# EAGLE library part TLP290-4 (library AC_nest_parts)
4 Channel Optoisolator (AC/DC input)
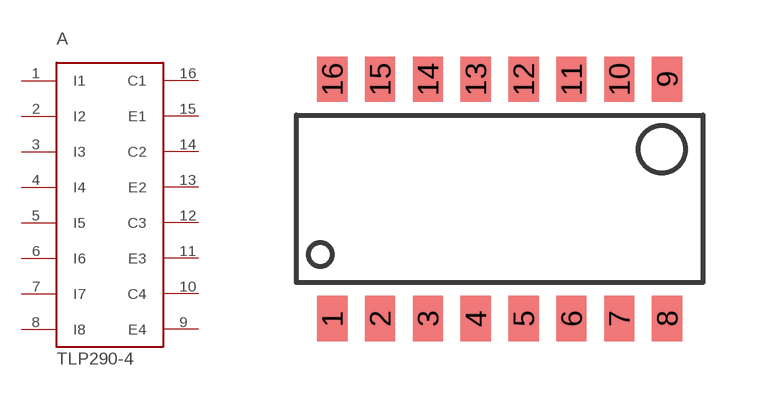
[diagram p0: symbol with the pads of TLP290-4; footprint TLP290-4]

Designator prefix A

## TLP290-4  [TLP290-4]
1  I1
2  I2
3  I3
4  I4
5  I5
6  I6
7  I7
8  I8
9  E4
10  C4
11  E3
12  C3
13  E2
14  C2
15  E1
16  C1

## Footprint TLP290-4 (pad centres in mm)
smd 0.8 x 1.2: 1 0,-7.62; 2 1.27,-7.62; 3 2.54,-7.62; 4 3.81,-7.62; 5 5.08,-7.62; 6 6.35,-7.62; 7 7.62,-7.62; 8 8.89,-7.62; 9 8.89,-1.27; 10 7.62,-1.27; 11 6.35,-1.27; 12 5.08,-1.27; 13 3.81,-1.27; 14 2.54,-1.27; 15 1.27,-1.27; 16 0,-1.27